# EAGLE library part XY-WB (library LT89x0_modules)
XY-WB is a small and cheap radio module build around the NST Semi LT8920 2.4GHz transceiver
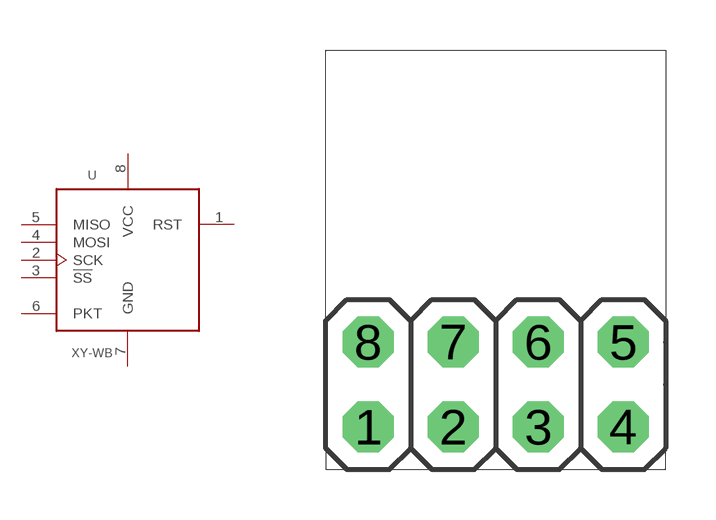
[diagram p0: symbol with the pads of 2X04; footprint 2X04]

Designator prefix U

## XY-WBTH  [2X04]
1  RST  in
2  SCK  in
3  !SS  in
4  MOSI  in
5  MISO  out
6  PKT  out
7  GND  pas
8  VCC  pwr

## Footprint 2X04 (pad centres in mm)
PIN HEADER
drill 1.016 octagon: 1 -3.81,-1.27; 2 -1.27,-1.27; 3 1.27,-1.27; 4 3.81,-1.27; 5 3.81,1.27; 6 1.27,1.27; 7 -1.27,1.27; 8 -3.81,1.27